# Altium footprint library IFX-PG-IQFN-36-2-V.PcbLib: 1 footprints
Each footprint in its own frame and in the unit in brackets; x right, y up, seen from the top. Pads: shape width x height; smd on the part's side, far side on the other; paste and mask are expansions set on the pad; w line width, h text height; cw(c..) or ccw(c..) is an arc to the next point about the centre after c.
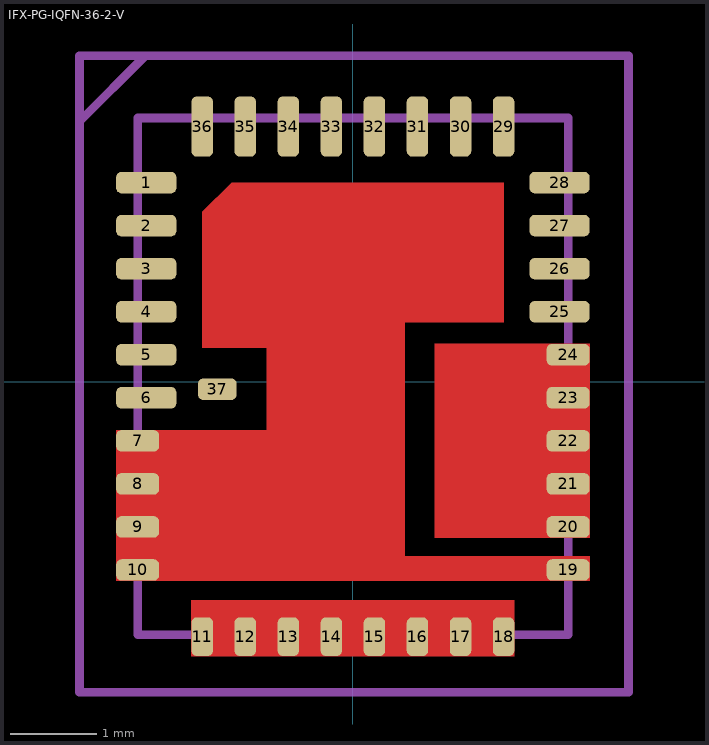
[diagram p0: the footprint, top view; thin cyan lines are the x and y axes]

## IFX-PG-IQFN-36-2-V [mm] "PG-IQFN-36-2, SMD, 0.50 mm pitch, 37 pin, 5.00 mm L X 6.00 mm W X 1.00 mm H body"
height 1
pads (37):
  rrect50% 0.7x0.25 smd paste-0.125 mask+0: 1(-2.4,2.313) 2(-2.4,1.813) 3(-2.4,1.313) 4(-2.4,0.813) 5(-2.4,0.313) 6(-2.4,-0.187) 25(2.4,0.813) 26(2.4,1.313) 27(2.4,1.813) 28(2.4,2.313)
  rrect50% 0.5x0.25 smd paste-0.125 mask+0: 7(-2.5,-0.688) 8(-2.5,-1.188) 9(-2.5,-1.687) 10(-2.5,-2.187) 19(2.5,-2.187) 20(2.5,-1.687) 21(2.5,-1.187) 22(2.5,-0.687) 23(2.5,-0.187) 24(2.5,0.313)
  rrect50% 0.25x0.45 smd paste-0.125 mask+0: 11(-1.75,-2.962) 12(-1.25,-2.962) 13(-0.75,-2.962) 14(-0.25,-2.962) 15(0.25,-2.962) 16(0.75,-2.962) 17(1.25,-2.962) 18(1.75,-2.962)
  rrect50% 0.25x0.7 smd paste-0.125 mask+0: 29(1.75,2.963) 30(1.25,2.963) 31(0.75,2.963) 32(0.25,2.963) 33(-0.25,2.963) 34(-0.75,2.963) 35(-1.25,2.963) 36(-1.75,2.963)
  rrect50% 0.45x0.25 smd paste-0.125 mask+0: 37(-1.575,-0.087)
Top Layer:
  region: 2.75,-2.312 -2.75,-2.312 -2.75,-0.562 -1,-0.562 -1,0.393 -1.75,0.393 -1.75,1.973 -1.41,2.313 1.75,2.313 1.75,0.689 0.601,0.689 0.601,-2.027 2.75,-2.027
  region: 2.75,-1.812 0.951,-1.812 0.951,0.438 2.75,0.438
  region: -1.875,-3.187 -1.875,-2.537 1.875,-2.537 1.875,-3.187
Top Paste:
  drawing of 52 lines, arcs and shapes, not listed
Top Solder:
  region: 2.769,-2.311 -2.743,-2.311 -2.743,-0.562 -1,-0.562 -1,0.393 -1.75,0.393 -1.75,1.973 -1.41,2.313 1.75,2.313 1.75,0.689 0.601,0.689 0.601,-2.027 2.769,-2.028
  region: 2.743,-1.803 0.951,-1.803 0.951,0.432 2.743,0.432
  region: -1.88,-3.2 -1.88,-2.54 1.88,-2.54 1.88,-3.2
Mechanical 3:
  lines w0.1: -3.175,-3.607 3.2,-3.607 3.2,3.785 -2.413,3.785 -3.175,3.023 -3.175,-3.607
Mechanical 5:
  lines w0.1: -2.5,-2.937 2.5,-2.937 2.5,3.063 -2.5,3.063 -2.5,-2.937
Mechanical 7:
  lines w0.1: -0.5,0 0.5,0 ; 0,-0.5 0,0.5 ; -3.175,-3.607 -3.175,3.785 3.2,3.785 3.2,-3.607 -3.175,-3.607
Mechanical 9:
  text "'.Designator'" at -5.74,-0.279 h1
3D body "PG-IQFN-36-2_Z8B00186570_V03_3D.stp": height 1.01, standoff 0, extent -2.5,-2.937 2.5,3.063
3D body: height 1, standoff 0, extent -3.175,-3.607 3.2,3.785